# Altium schematic symbol library Schematic Diagrams.SchLib: 322 symbols (part 4 of 8)
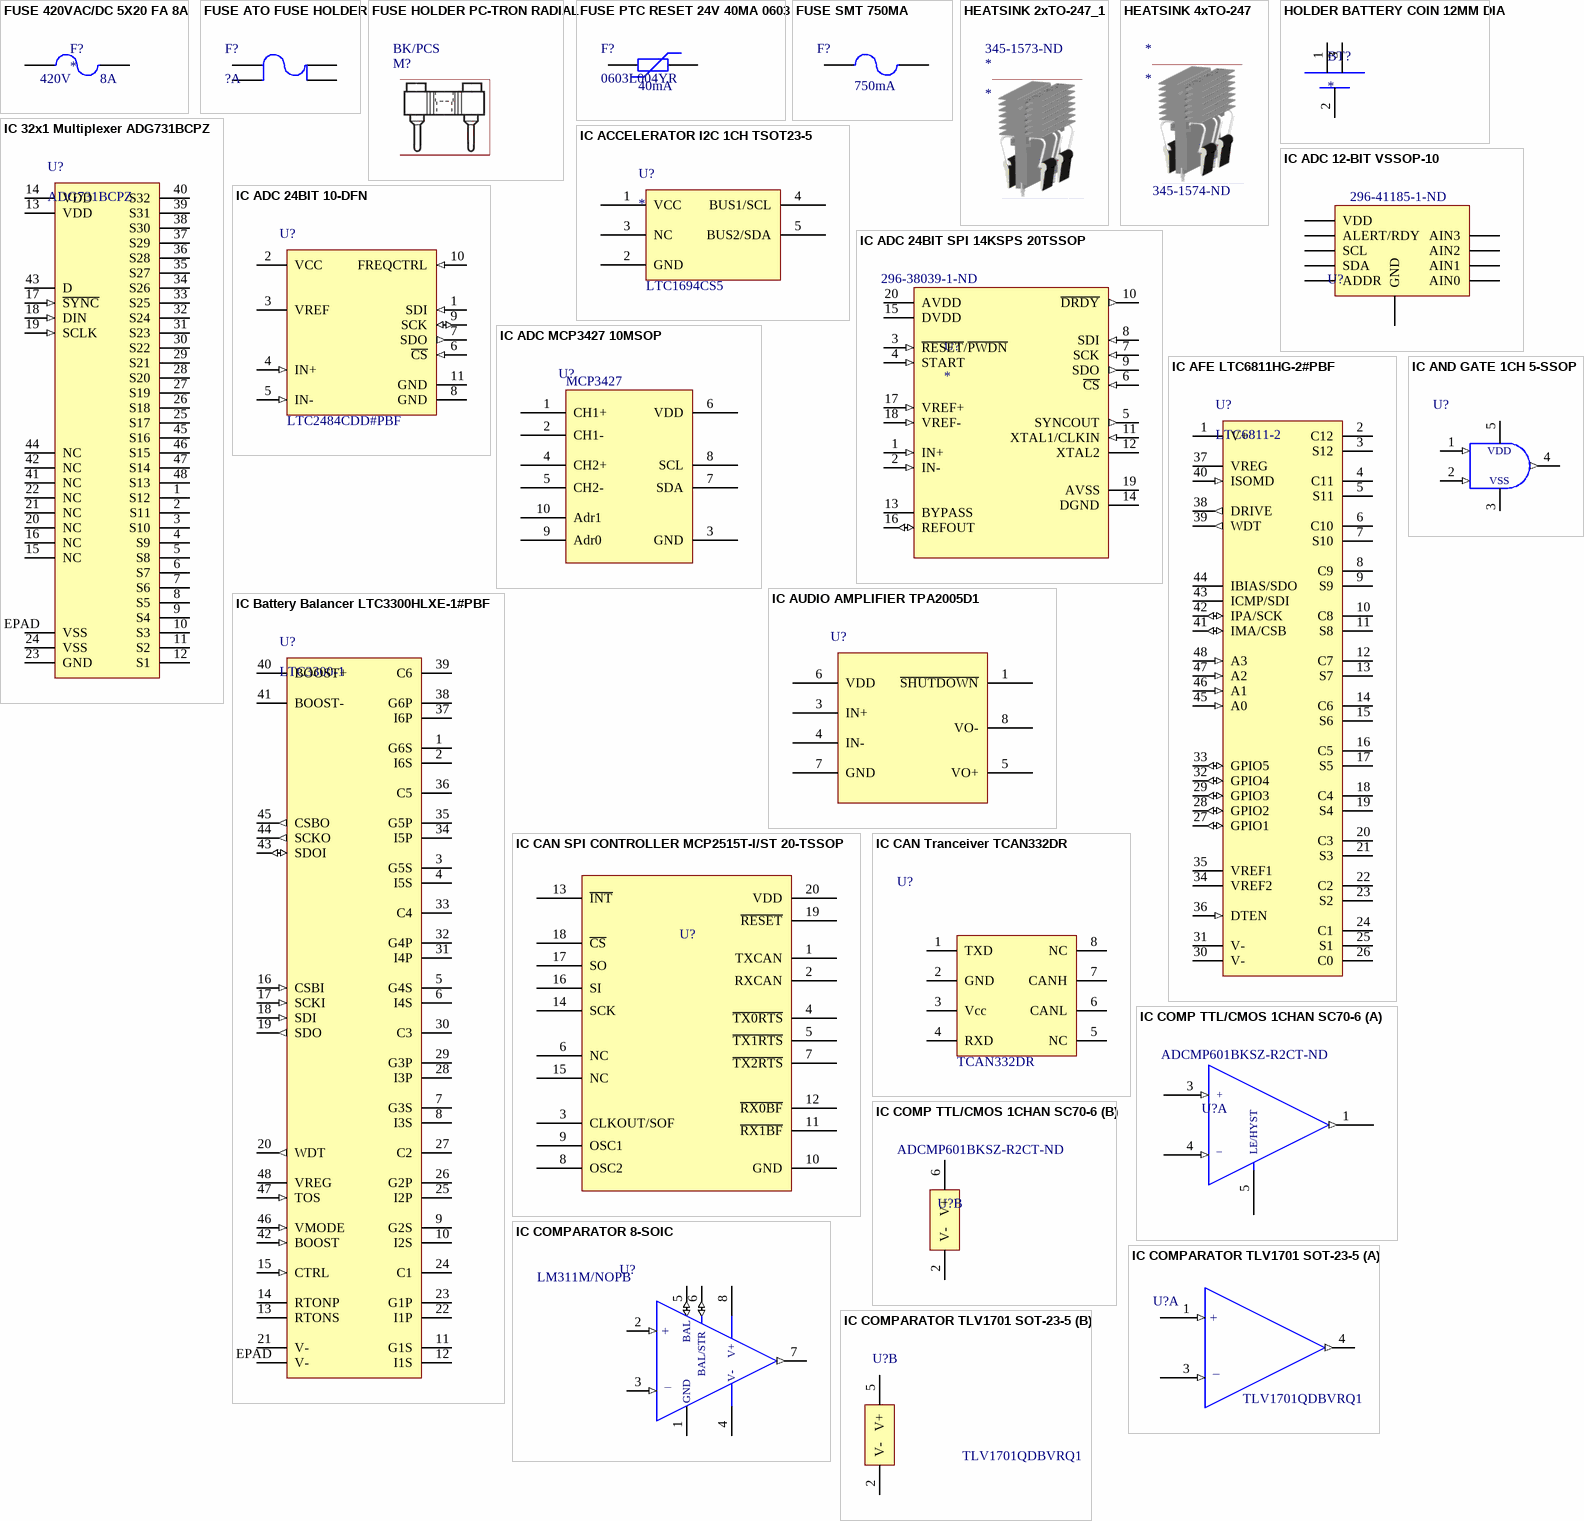
[diagram p13: symbols FUSE 420VAC/DC 5X20 FA 8A to IC COMPARATOR TLV1701 SOT-23-5]

## FUSE PTC RESET 24V 40MA 0603
designator F?, comment 0603L004YR  Hold Current: 40mA
Polymeric PTC Resettable Fuse 24V 40mA Ih Surface Mount 0603 (1608 Metric), Concave; Manufacturer 1: Littelfuse; Description 1: PTC 24V POLYFUSE SMT 0603 .035A; Max Current Rating: 20A; Power Dissipation: 500mW; Trip Current: 120mA; Time to Trip: 1s; Approvals: cULus,TUV; Supplier 1: Digi-Key; Supplier Part Number 1: F6263CT-ND; Manufacturer Part Number 1: 0603L004YR; Stock 1: 21365; Pricing 1: 1=2.61, 5=2.488, 10=2.363, 50=1.9068, 100=1.6166, 250=1.5751, 500=1.3264, 1000=1.1813 (USD); Case/Package: 0603; Case Code (Metric): 1608; Case Code (Imperial): 0603; Min Operating Temperature: -40°C; Max Operating Temperature: 85°C; Packaging: Tape and Reel; Package Quantity: 4000; Max Voltage Rating (DC): 24V; ComponentLink1URL: https://datasheet.ciiva.com/29603/littelfuse-ptc-0603l-29603319.pdf; ComponentLink1Description: https://datasheet.ciiva.com/29603/littelfuse-ptc-0603l-29603319.pdf
footprint RES, 0603 (Chip Resistor, 2-Leads, Body 1.60x0.80mm, IPC Medium Density)
pins: 1, 2

## FUSE SMT 750MA
designator F?  Current Rating: 750mA
Board Mount Fuse 750MA 32VAC 63VDC; Manufacturer 1: Bel Fuse Inc.; Manufacturer Part Number 1: C2Q 750; Fuse Type: Board Mount (Cartridge Style Excluded); Response Time: Fast; Breaking Capacity @ Rated Voltage: 35A AC, 50A DC; Approvals: CE, cULus; Supplier 1: Digi-Key; Supplier Part Number 1: 507-1090-1-ND; Packaging: Cut Tape (CT); Part Status: Active; Package / Case: 0603 (1608 Metric); Mounting Type: Surface Mount; Operating Temperature: -55°C ~ 125°C; Color: -; Size / Dimension: 0.063" L x 0.032" W x 0.019" H (1.60mm x 0.82mm x 0.48mm); ComponentLink1URL: https://belfuse.com/resources/StewartConnector/C2Q.pdf; ComponentLink1Description: https://belfuse.com/resources/StewartConnector/C2Q.pdf
footprint RES, 0603 (Chip Resistor, 2-Leads, Body 1.60x0.80mm, IPC Medium Density)
pins: 1, 2

## HEATSINK 2xTO-247_1
designator *  Supplier Part Number 1: 345-1573-ND
Heat Sink TO-220, TO-247, TO-264 Aluminum Board Level, Vertical; Manufacturer: Wakefield; Manufacturer Part Number: OMNI-UNI-30-50-D; Supplier 1: Digi-Key; Stock 1: 499; Pricing 1: 1=2.8, 10=2.728, 25=2.6544, 50=2.5068, 100=2.3594, 250=2.21192, 500=2.13818, 1000=1.91698, 5000=1.88012 (USD)
footprint HEATSINK 2x TO-247

## HEATSINK 4xTO-247
designator *  Supplier Part Number 1: 345-1574-ND
n Heat Sink TO-220, TO-247, TO-264 Aluminum Board Level, Vertical; Manufacturer: Wakefield; Manufacturer Part Number: OMNI-UNI-30-50-D; Supplier 1: Digi-Key; Stock 1: 465; Pricing 1: 1=4.09, 10=3.98, 25=3.8724, 50=3.6572, 100=3.4421, 250=3.22696, 500=3.11938, 1000=2.79669 (USD)
footprint HEATSINK 4x TO-247

## HOLDER BATTERY COIN 12MM DIA
designator BT?
Coin cell holder smd; Manufacturer: Keystone Electronics; Manufacturer Part Number: 3000; Body Material: Bronze; Number of Batteries: 1; Supplier 1: Digi-Key; Stock 1: 17093; Pricing 1: 1=0.58, 10=0.545, 50=0.4356, 100=0.4175, 250=0.38116, 500=0.363, 1000=0.30495, 2500=0.27225, 5000=0.26318 (USD); Mount: Surface Mount,PCB; Contact Material: Bronze,Nickel; Material: Bronze; Contact Plating: Nickel; Package Quantity: 100; Packaging: Bulk; Termination: SMD/SMT; Number of Cells: 1; Diameter: 12mm; Height: 3.17mm; REACH SVHC: No SVHC; Lead Free: Lead Free; ComponentLink1URL: https://datasheet.ciiva.com/3/3000-3953.pdf; ComponentLink1Description: https://datasheet.ciiva.com/3/3000-3953.pdf; ComponentLink2URL: https://datasheet.ciiva.com/11714/0900766b8002ef78-11714721.pdf; ComponentLink2Description: https://datasheet.ciiva.com/11714/0900766b8002ef78-11714721.pdf; ComponentLink3URL: https://datasheet.ciiva.com/20221/18-3570e-20221596.pdf; ComponentLink3Description: https://datasheet.ciiva.com/20221/18-3570e-20221596.pdf; ComponentLink4URL: https://datasheet.ciiva.com/1391/1718262-1391630.pdf; ComponentLink4Description: https://datasheet.ciiva.com/1391/1718262-1391630.pdf; Supplier Part Number 1: 36-3000-ND
footprint HOLDER COIN CELL 1220 3V (12mm smd coin cell holder)
pins: 1 positive 1 (power), 2 negative (power), 3 positive 2 (power)

## IC 32x1 Multiplexer ADG731BCPZ
designator U?, comment ADG731BCPZ
IC MULTIPLEXER 32X1 48LFCSP; Manufacturer: Analog Devices Inc.; Supplier 1: Digi-Key; Supplier Part Number 1: ADG731BCPZ-ND; Manufacturer Part Number: ADG731BCPZ
pins: 1 S12, 2 S11, 3 S10, 4 S9, 5 S8, 6 S7, 7 S6, 8 S5, 9 S4, 10 S3, 11 S2, 12 S1, 13 VDD (power), 14 VDD (power), 15 NC, 16 NC, 17 ~{SYNC} (in), 18 DIN (in), 19 SCLK (in), 20 NC, 21 NC, 22 NC, 23 GND (power), 24 VSS (power), 25 S17, 26 S18, 27 S19, 28 S20, 29 S21, 30 S22, 31 S23, 32 S24, 33 S25, 34 S26, 35 S27, 36 S28, 37 S29, 38 S30, 39 S31, 40 S32, 41 NC, 42 NC, 43 D, 44 NC, 45 S16, 46 S15, 47 S14, 48 S13, EPAD VSS (power)

## IC ACCELERATOR I2C 1CH TSOT23-5
designator U?  Supplier Part Number: LTC1694CS5
Accelerator 1 Channel 400kHz TSOT-23-5; Manufacturer: Linear Technology/Analog Devices; Manufacturer Part Number: LTC1694CS5#TRMPBF; Input: 2-Wire Bus; Number of Channels: 1; Voltage - Supply: 2.7 V ~ 6 V; Current - Supply: 60µA; Supplier 1: Digi-Key; RoHS: RoHS Compliant; Category: Integrated Circuits (ICs); Pricing 1: 1=4.79, 25=4.278, 100=2.5493, 250=2.33692 (CAD); Packaging: Cut Tape (CT); Part Status: Active; Type: Accelerator; Applications: I²C; Output: 2-Wire Bus; Data Rate (Max): 400kHz; Delay Time: -; Signal Conditioning: -; Operating Temperature: 0°C ~ 70°C; Package / Case: SOT-23-5 Thin, TSOT-23-5; Supplier Device Package: TSOT-23-5; Base Part Number: LTC1694; ComponentLink1URL: http://www.linear.com/docs/3505; ComponentLink1Description: http://www.linear.com/docs/3505; Supplier Part Number 1: LTC1694CS5#TRMPBFCT-ND; Stock 1: 794
footprint IC OP AMP GP RR 10MHZ SOT-23-5 (SOT23, 5-Leads, Body 2.90x2.80mm, Pitch 0.95mm, IPC Medium Density)
pins: 1 VCC, 2 GND, 3 NC, 4 BUS1/SCL, 5 BUS2/SDA

## IC ADC 12-BIT VSSOP-10
designator U?, comment Supplier Part Number 1: 296-41185-1-ND  (hidden comment: Quad ADC)
12 Bit Analog to Digital Converter 4 Input 1 Sigma-Delta 10-VSSOP; Manufacturer: Texas Instruments; Manufacturer Part Number: ADS1015IDGSR; Number of Bits: 12; Sampling Rate (Per Second): 3.3k; Number of Inputs: 2, 4; Input Type: Differential, Single Ended; Data Interface: I²C; Configuration: MUX-PGA-ADC; Number of A/D Converters: 1; Reference Type: Internal; Voltage - Supply, Analog: 2 V ~ 5.5 V; Supplier 1: Digi-Key; RoHS: RoHS Compliant; Category: Integrated Circuits (ICs); Stock 1: 4084; Pricing 1: 1=4.25, 10=3.807, 100=3.1194, 500=2.65552, 1000=2.23959 (CAD); Packaging: Cut Tape (CT); Part Status: Active; Ratio - S/H:ADC: -; Architecture: Sigma-Delta; Voltage - Supply, Digital: 2 V ~ 5.5 V; Features: PGA, Selectable Address; Operating Temperature: -40°C ~ 125°C; Package / Case: 10-TFSOP, 10-MSOP (0.118", 3.00mm Width); Supplier Device Package: 10-VSSOP; ComponentLink1URL: http://www.ti.com/lit/ds/symlink/ads1013.pdf; ComponentLink1Description: http://www.ti.com/lit/ds/symlink/ads1013.pdf
footprint IC ADC VSSOP10
pins: 1 ADDR, 2 ALERT/RDY, 3 GND, 4 AIN0, 5 AIN1, 6 AIN2, 7 AIN3, 8 VDD, 9 SDA, 10 SCL

## IC ADC 24BIT 10-DFN
designator U?  Manufacturer Part Number 1: LTC2484CDD#PBF
24 Bit Analog to Digital Converter 1 Input 1 Sigma-Delta 10-DFN (3x3); Manufacturer 1: Linear Technology; Number of Bits: 24; Sampling Rate (Per Second): 7.5; Number of Inputs: 1; Input Type: Differential; Data Interface: SPI; Configuration: MUX-ADC; Reference Type: External; Voltage - Supply, Analog: 2.7 V ~ 5.5 V; Supplier 1: Digi-Key; Supplier Part Number 1: LTC2484CDD#PBF-ND; Packaging: Tube; Part Status: Active; Ratio - S/H:ADC: -; Number of A/D Converters: 1; Architecture: Sigma-Delta; Voltage - Supply, Digital: 2.7 V ~ 5.5 V; Operating Temperature: 0°C ~ 70°C; Package / Case: 10-WFDFN Exposed Pad; Supplier Device Package: 10-DFN (3x3); ComponentLink1URL: http://www.linear.com/docs/7978; ComponentLink1Description: http://www.linear.com/docs/7978
footprint IC ADC LTC2484 10-DFN
pins: 1 SDI (in), 2 VCC (power), 3 VREF (power), 4 IN+ (in), 5 IN- (in), 6 ~{CS} (in), 7 SDO (out), 8 GND (power), 9 SCK (io), 10 FREQCTRL (in), 11 GND

## IC ADC 24BIT SPI 14KSPS 20TSSOP
designator U?  Supplier Part Number 1: 296-38039-1-ND
24 Bit Analog to Digital Converter 1 Input 1 Sigma-Delta 20-TSSOP; Manufacturer: Texas Instruments; Manufacturer Part Number: ADS1259QPWRQ1; Categories: Integrated Circuits (ICs); Number of Bits: 24; Sampling Rate (Per Second): 14k; Number of Inputs: 1; Input Type: Differential, Single Ended; Data Interface: SPI; Configuration: ADC; Reference Type: External; Voltage - Supply, Analog: 5V; Voltage - Supply, Digital: 2.7V ~ 5.25V; Supplier 1: Digi-Key; ComponentLink1Description: Datasheet; ComponentLink1URL: http://www.ti.com/lit/ds/symlink/ads1259.pdf; Packaging: Cut Tape (CT); Part Status: Active; Number of A/D Converters: 1; Architecture: Sigma-Delta; Features: PGA; Operating Temperature: -40°C ~ 105°C; Package / Case: 20-TSSOP (0.173", 4.40mm Width); Supplier Device Package: 20-TSSOP; Mounting Type: Surface Mount; Lead Free Status / RoHS Status: Lead free / ROHS3 Compliant
footprint TSSOP65P640X120-20N (TSSOP, 20-Leads, Body 6.50x4.40mm, Pitch 0.65mm, IPC Medium Density)
pins: 1 IN+ (in), 2 IN- (in), 3 ~{RE}~{SET}/~{PW}~{DN} (in), 4 START (in), 5 SYNCOUT (out), 6 ~{C}~{S} (in), 7 SCK (in), 8 SDI (in), 9 SDO (out), 10 ~{DRD}~{Y} (out), 11 XTAL1/CLKIN (in), 12 XTAL2, 13 BYPASS, 14 DGND, 15 DVDD, 16 REFOUT  (io), 17 VREF+ (in), 18 VREF- (in), 19 AVSS, 20 AVDD

## IC ADC MCP3427 10MSOP
designator U?  Base Part Number: MCP3427
16 Bit Analog to Digital Converter 2 Input 1 Sigma-Delta 10-MSOP; Manufacturer: Microchip Technology; Manufacturer Part Number: MCP3427-E/UN; Number of Bits: 16; Sampling Rate (Per Second): 15; Number of Inputs: 2; Input Type: Differential; Data Interface: I²C; Configuration: MUX-PGA-ADC; Reference Type: Internal; Voltage - Supply, Analog: 2.7 V ~ 5.5 V; Supplier 1: Digi-Key; RoHS: RoHS Compliant; Category: Integrated Circuits (ICs); Stock 1: 3001; Pricing 1: 1=4.32, 25=3.6064, 100=3.2704 (CAD); Packaging: Tube; Part Status: Active; Ratio - S/H:ADC: -; Architecture: Sigma-Delta; Voltage - Supply, Digital: 2.7 V ~ 5.5 V; Features: PGA, Selectable Address; Operating Temperature: -40°C ~ 125°C; Package / Case: 10-TFSOP, 10-MSOP (0.118", 3.00mm Width); Supplier Device Package: 10-MSOP; ComponentLink1URL: http://www.microchip.com/mymicrochip/filehandler.aspx?ddocname=en546216; ComponentLink1Description: http://www.microchip.com/mymicrochip/filehandler.aspx?ddocname=en546216; Supplier Part Number 1: MCP3427-E/UN-ND
footprint IC ADC MCP3427
pins: 1 CH1+, 2 CH1-, 3 GND, 4 CH2+, 5 CH2-, 6 VDD, 7 SDA, 8 SCL, 9 Adr0, 10 Adr1

## IC AFE LTC6811HG-2#PBF
designator U?, comment LTC6811-2
IC MONITOR BATT STACK 48SSOP; Manufacturer: Linear Technology; Manufacturer Part Number: LTC6811HG-2#PBF; Digikey Part Number: LTC6811HG-2#PBF-ND; Supplier 1: Digi-Key; Supplier Part Number 1: LTC6811HG-2#PBF-ND
pins: 1 V+ (power), 2 C12, 3 S12, 4 C11, 5 S11, 6 C10, 7 S10, 8 C9, 9 S9, 10 C8, 11 S8, 12 C7, 13 S7, 14 C6, 15 S6, 16 C5, 17 S5, 18 C4, 19 S4, 20 C3, 21 S3, 22 C2, 23 S2, 24 C1, 25 S1, 26 C0, 27 GPIO1 (io), 28 GPIO2 (io), 29 GPIO3 (io), 30 V- (power), 31 V- (power), 32 GPIO4 (io), 33 GPIO5 (io), 34 VREF2 (power), 35 VREF1 (power), 36 DTEN (in), 37 VREG (power), 38 DRIVE (out), 39 WDT (out), 40 ISOMD (in), 41 IMA/CSB (io), 42 IPA/SCK (io), 43 ICMP/SDI, 44 IBIAS/SDO, 45 A0 (in), 46 A1 (in), 47 A2 (in), 48 A3 (in)

## IC AND GATE 1CH 5-SSOP
designator U?
AND Gate IC 1 Channel 5-SSOP; Manufacturer 1: Rohm Semiconductor; Manufacturer Part Number 1: BU4S81G2-TR; Number of Circuits: 1; Number of Inputs: 2; Voltage - Supply: 3 V ~ 16 V; Current - Quiescent (Max): 1µA; Current - Output High, Low: 3.4mA, 3.4mA; Logic Level - Low: 1.5 V ~ 4 V; Logic Level - High: 3.5 V ~ 11 V; Max Propagation Delay @ V, Max CL: 30ns @ 15V, 50pF; Supplier 1: Digi-Key; Supplier Part Number 1: BU4S81G2CT-ND; Packaging: Cut Tape (CT); Part Status: Active; Operating Temperature: -40°C ~ 85°C; Mounting Type: Surface Mount; Supplier Device Package: 5-SSOP; Package / Case: SC-74A, SOT-753; ComponentLink1URL: http://rohmfs.rohm.com/en/products/databook/datasheet/ic/logic_switch/standard_logic/bu4s81g2-e.pdf; ComponentLink1Description: http://rohmfs.rohm.com/en/products/databook/datasheet/ic/logic_switch/standard_logic/bu4s81g2-e.pdf; Logic Type: AND Gate
footprint IC, 2-Input AND Gate (IC GATE AND 1CH 2-INP 5-SSOP)
pins: 1 A (in), 2 B (in), 3 GND (power), 4 Y (out), 5 VCC (power)
text: VDD; VSS

## IC AUDIO AMPLIFIER TPA2005D1
designator U?
Amplifier IC 1-Channel (Mono) Class D 8-MSOP-PowerPad; Manufacturer: Texas Instruments; Manufacturer Part Number: TPA2005D1DGNR; Max Output Power x Channels @ Load: 1.45W x 1 @ 8 Ohm; Voltage - Supply: 2.5 V ~ 5.5 V; Supplier 1: Digi-Key; RoHS: RoHS Compliant; Category: Integrated Circuits (ICs); Stock 1: 18369; Pricing 1: 1=1.8, 10=1.604, 100=1.2507, 500=1.03318, 1000=0.81568 (CAD); Packaging: Digi-Reel®; Part Status: Active; Type: Class D; Output Type: 1-Channel (Mono); Features: Differential Inputs, Short-Circuit and Thermal Protection, Shutdown; Mounting Type: Surface Mount; Operating Temperature: -40°C ~ 85°C (TA); Supplier Device Package: 8-MSOP-PowerPad; Package / Case: 8-TSSOP, 8-MSOP (0.118", 3.00mm Width) Exposed Pad; Base Part Number: TPA2005D1; ComponentLink1URL: http://www.ti.com/lit/ds/symlink/tpa2005d1.pdf; ComponentLink1Description: http://www.ti.com/lit/ds/symlink/tpa2005d1.pdf; Supplier Part Number 1: 296-26876-6-ND
footprint IC CLASS D AUDIO AMPLIFIER TPA2005D1 8-MSOP
pins: 1 ~{SHUTDOWN}, 3 IN+, 4 IN-, 5 VO+, 6 VDD, 7 GND, 8 VO-

## IC Battery Balancer LTC3300HLXE-1#PBF
designator U?, comment LTC3300-1
IC BATTERY BALANCER 48LQFP; Manufacturer: Linear Technology; Manufacturer Part Number: LTC3300HLXE-1#PBF; Supplier 1: Digi-Key; Supplier Part Number 1: LTC3300HLXE-1#PBF-ND
pins: 1 G6S, 2 I6S, 3 G5S, 4 I5S, 5 G4S, 6 I4S, 7 G3S, 8 I3S, 9 G2S, 10 I2S, 11 G1S, 12 I1S, 13 RTONS, 14 RTONP, 15 CTRL (in), 16 CSBI (in), 17 SCKI (in), 18 SDI (in), 19 SDO (out), 20 WDT (out), 21 V- (power), 22 I1P, 23 G1P, 24 C1, 25 I2P, 26 G2P, 27 C2, 28 I3P, 29 G3P, 30 C3, 31 I4P, 32 G4P, 33 C4, 34 I5P, 35 G5P, 36 C5, 37 I6P, 38 G6P, 39 C6, 40 BOOST+, 41 BOOST-, 42 BOOST (in), 43 SDOI (io), 44 SCKO (out), 45 CSBO (out), 46 VMODE (in), 47 TOS (in), 48 VREG (power), EPAD V- (power)

## IC CAN SPI CONTROLLER MCP2515T-I/ST 20-TSSOP
designator U?, comment MCP2515  (value not drawn)
CAN Controller CAN 2.0 SPI Interface 20-TSSOP; Manufacturer: Microchip Technology; Manufacturer Part Number: MCP2515T-I/ST; Standards: CAN 2.0; Voltage - Supply: 2.7 V ~ 5.5 V; Current - Supply: 10mA; Supplier 1: Digi-Key; RoHS: RoHS Compliant; Category: Integrated Circuits (ICs); Stock 1: 27278; Pricing 1: 1=3.04, 25=2.5372, 100=2.3076 (CAD); Packaging: Cut Tape (CT); Part Status: Active; Protocol: CAN; Function: Controller; Interface: SPI; Operating Temperature: -40°C ~ 85°C; Package / Case: 20-TSSOP (0.173", 4.40mm Width); Supplier Device Package: 20-TSSOP; Base Part Number: MCP2515; ComponentLink1URL: http://www.microchip.com/mymicrochip/filehandler.aspx?ddocname=en011733; ComponentLink1Description: http://www.microchip.com/mymicrochip/filehandler.aspx?ddocname=en011733; Supplier Part Number 1: MCP2515T-I/STCT-ND
footprint TSSOP65P640X120-20N (TSSOP, 20-Leads, Body 6.50x4.40mm, Pitch 0.65mm, IPC Medium Density)
pins: 1 TXCAN, 2 RXCAN, 3 CLKOUT/SOF, 4 ~{TX0RTS}, 5 ~{TX1RTS}, 6 NC, 7 ~{TX2RTS}, 8 OSC2, 9 OSC1, 10 GND, 11 ~{RX1BF}, 12 ~{RX0BF}, 13 ~{INT}, 14 SCK, 15 NC, 16 SI, 17 SO, 18 ~{CS}, 19 ~{RE}~{SET}, 20 VDD

## IC CAN Tranceiver TCAN332DR
designator U?  Manufacturer Part Number: TCAN332DR
1/1 Transceiver CAN 8-SOIC; Digikey Part Number: 296-43711-1-ND; Supplier 1: Digi-Key; Supplier Part Number 1: 296-43711-1-ND
footprint TSOP65P280X145-8N (TSOP, 8-Leads, Body 2.90x1.60mm, Pitch 0.65mm, IPC Medium Density)
pins: 1 TXD, 2 GND, 3 Vcc, 4 RXD, 5 NC, 6 CANL, 7 CANH, 8 NC

## IC COMP TTL/CMOS 1CHAN SC70-6
designator U?  Supplier Part Number 1: ADCMP601BKSZ-R2CT-ND  (hidden comment: *)
Comparator with Latch CMOS, TTL SC-70-6; ComponentLink1Description: https://www.analog.com/media/en/technical-documentation/data-sheets/ADCMP600_601_602.pdf; ComponentLink1URL: https://www.analog.com/media/en/technical-documentation/data-sheets/ADCMP600_601_602.pdf; Supplier 1: Digi-Key
footprint 6-Lead Plastic SC70
part A pins: 1 Q (out), 3 + (in), 4 _ (in), 5 LE/HYST
part B pins: 2 V- (power), 6 V+ (power)

## IC COMPARATOR 8-SOIC
designator U?  Manufacturer Part Number 1: LM311M/NOPB
Comparator General Purpose DTL, MOS, Open-Collector, Open-Emitter, RTL, TTL 8-SOIC; Manufacturer 1: Texas Instruments; Voltage - Supply, Single/Dual (±): 5 V ~ 36 V, ±2.5 V ~ 18 V; Voltage - Input Offset (Max): 7.5mV @ ±15V; Current - Input Bias (Max): 0.25µA @ ±15V; Current - Quiescent (Max): 7.5mA; Supplier 1: Digi-Key; Supplier Part Number 1: LM311MNS/NOPB-ND; Packaging: Tube; Part Status: Active; Type: General Purpose; Output Type: DTL, MOS, Open-Collector, Open-Emitter, RTL, TTL; Current - Output (Typ): -; CMRR, PSRR (Typ): -; Propagation Delay (Max): -; Hysteresis: -; Operating Temperature: 0°C ~ 70°C; Package / Case: 8-SOIC (0.154", 3.90mm Width); Mounting Type: Surface Mount; Supplier Device Package: 8-SOIC; ComponentLink1URL: http://www.ti.com/lit/ds/symlink/lm311-n.pdf; ComponentLink1Description: http://www.ti.com/lit/ds/symlink/lm311-n.pdf
footprint SOIC8
pins: 1 GND (power), 2 +IN (in), 3 -IN (in), 4 V- (power), 5 BAL (io), 6 BAL/STR (io) "Balance/Strobe", 7 OUTPUT (out), 8 V+ (power)
text: +; _

## IC COMPARATOR TLV1701 SOT-23-5
designator U?  Manufacturer Part Number: TLV1701QDBVRQ1
Comparator General Purpose Open Collector SOT-23-5; Manufacturer: Texas Instruments; Number of Channels: 1; Supplier 1: Digi-Key; Supplier Part Number 1: 296-47458-1-ND; Stock 1: 8944; Min Operating Temperature: -40°C; Max Operating Temperature: 125°C; ComponentLink1Description: Datasheet; ComponentLink1URL: http://www.ti.com/lit/ds/symlink/tlv1701-q1.pdf
footprint SOT95P280X145-5N (SOT23, 5-Leads, Body 2.95x2.80mm, Pitch 0.95mm, IPC Medium Density)
part A pins: 1 +IN (in), 3 -IN (in), 4 OUT (out)
part B pins: 2 V- (power), 5 V+ (power)
part A text: +; _

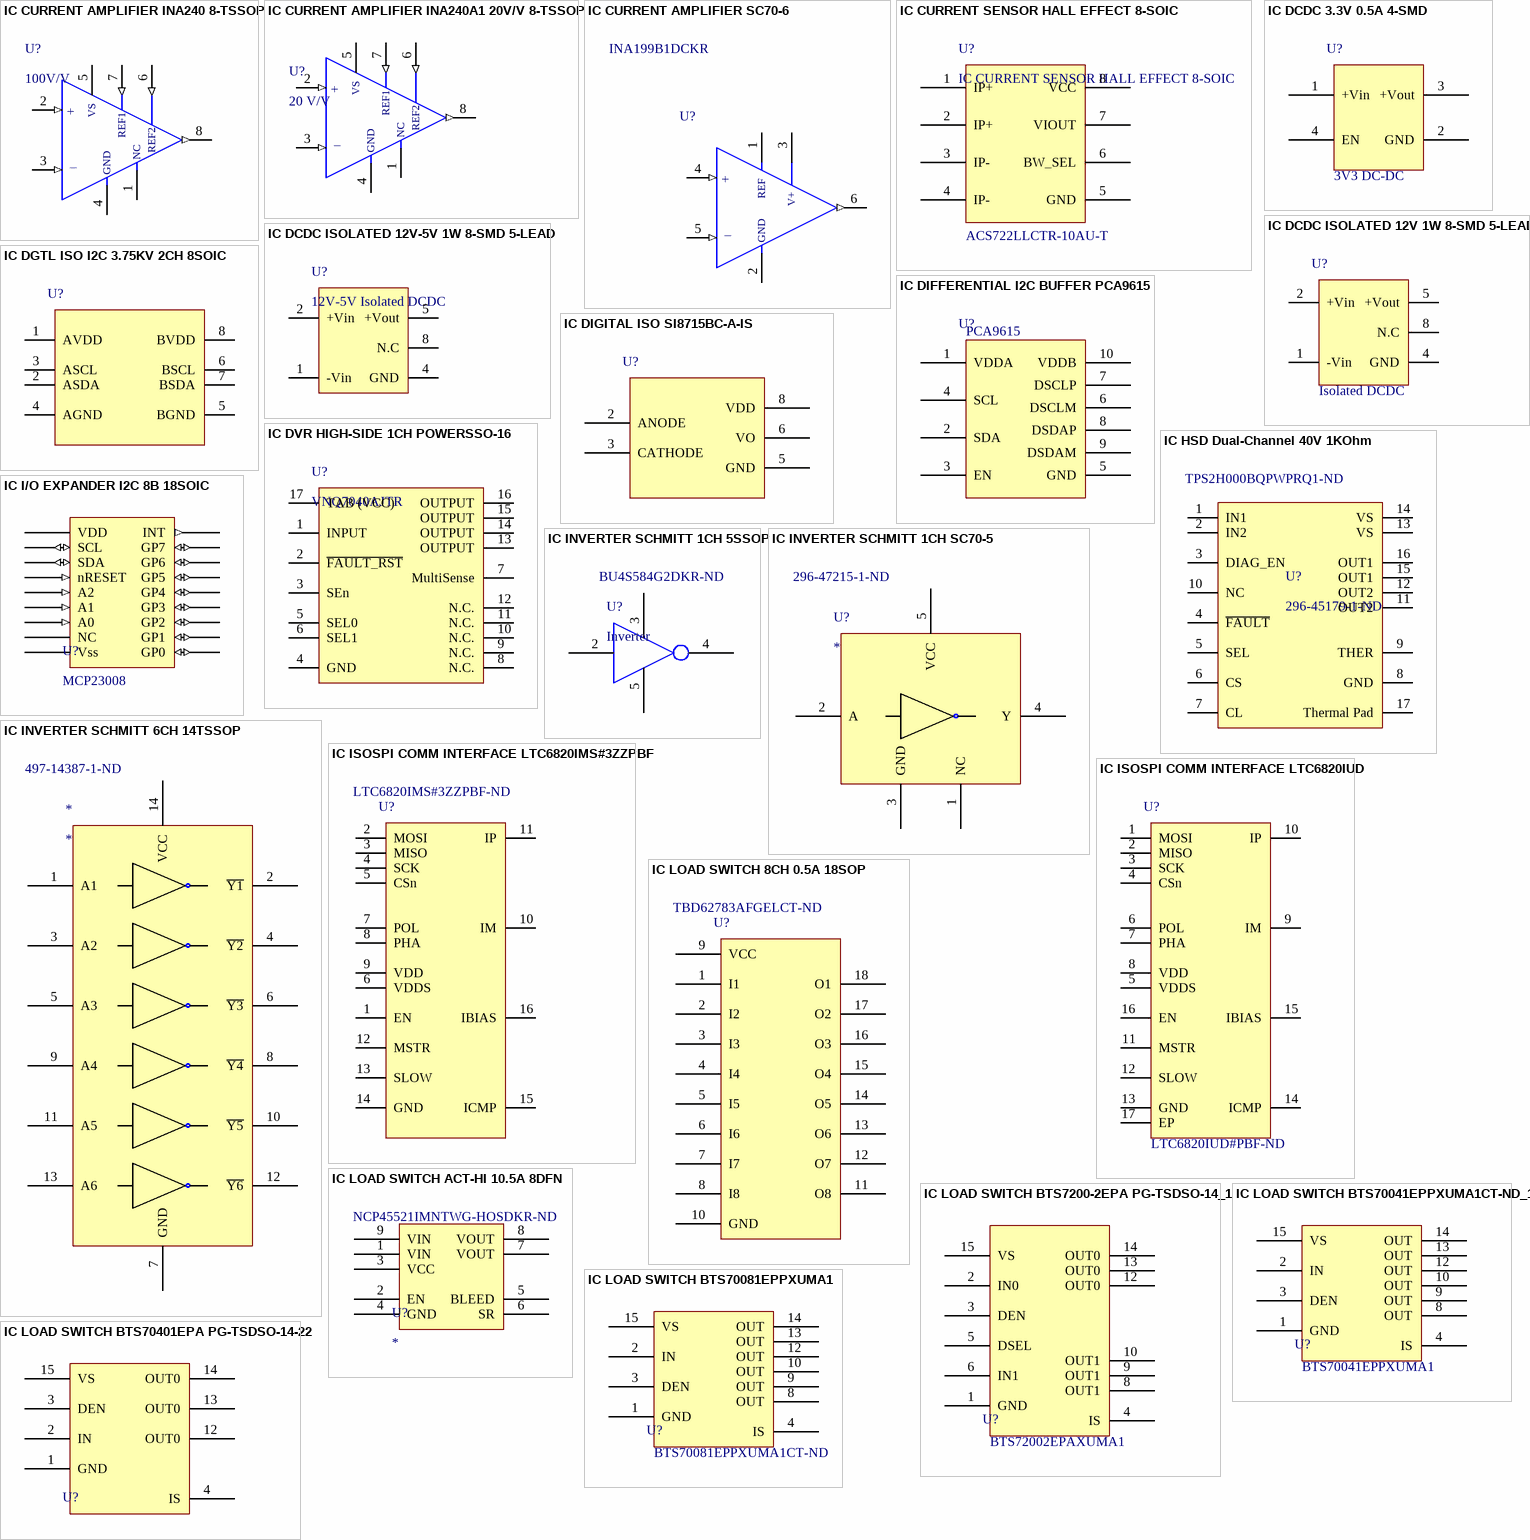
[diagram p4: symbols IC CURRENT AMPLIFIER INA240 8-TSSOP to IC LOAD SWITCH BTS70401EPA PG-TSDSO-14-22]

## IC CURRENT AMPLIFIER INA240 8-TSSOP
designator U?, comment 100V/V
Current Sense Amplifier 1 Circuit 8-TSSOP; Manufacturer 1: Texas Instruments; Manufacturer Part Number 1: INA240A3PWR; Description 1: IC AMP CURRENT SENSE 8-TSSOP; Slew Rate: 2 V/µs; Current - Supply: 1.8mA; Voltage - Supply, Single/Dual (±): 2.7 V ~ 5.5 V; Supplier 1: Digi-Key; Supplier Part Number 1: 296-45090-1-ND; RoHS: RoHS Compliant; Category: Integrated Circuits (ICs); Stock 1: 1286; Pricing 1: 1=3.79, 10=3.397, 100=2.7311, 500=2.24388, 1000=1.85921 (CAD); Packaging: Cut Tape (CT); Part Status: Active; Amplifier Type: Current Sense; Output Type: -; Operating Temperature: -40°C ~ 125°C; Mounting Type: Surface Mount; Package / Case: 8-TSSOP (0.173", 4.40mm Width); Supplier Device Package: 8-TSSOP; ComponentLink1URL: http://www.ti.com/lit/ds/symlink/ina240.pdf; ComponentLink1Description: http://www.ti.com/lit/ds/symlink/ina240.pdf
footprint IC CURRENT AMPLIFIER INA240 TSSOP-8
pins: 1 NC (power) "Connect to GND", 2 +IN (in), 3 -IN (in), 4 GND (power), 5 VS (power), 6 REF2 (in) "Reference", 7 REF1 (in) "Reference", 8 OUTPUT (out)
text: +; _

## IC CURRENT AMPLIFIER INA240A1 20V/V 8-TSSOP
designator U?, comment 20 V/V
Current Sense Amplifier 1 Circuit 8-TSSOP; Manufacturer 1: Texas Instruments; ComponentLink1URL: http://www.ti.com/lit/ds/symlink/ina240.pdf; ComponentLink1Description: http://www.ti.com/lit/ds/symlink/ina240.pdf; Supplier 1: Digi-Key; Supplier Part Number 1: 296-45088-1-ND; Stock 1: 4306; Pricing 1: 1=2.65, 10=2.377, 100=1.9109, 500=1.56998, 1000=1.30084 (USD); Case/Package: TSSOP; Min Operating Temperature: -40°C; Max Operating Temperature: 125°C; Lead Free: Lead Free
footprint IC CURRENT AMPLIFIER INA240 TSSOP-8
pins: 1 NC (power) "Connect to GND", 2 +IN (in), 3 -IN (in), 4 GND (power), 5 VS (power), 6 REF2 (in) "Reference", 7 REF1 (in) "Reference", 8 OUTPUT (out)
text: +; _

## IC CURRENT AMPLIFIER SC70-6
designator U?  Manufacturer Part Number 1: INA199B1DCKR  (hidden comment: IC CURRENT AMPLIFIER SC70-6)
Current Sense Amplifier 1 Circuit SC-70-6; Manufacturer 1: Texas Instruments; Description 1: IC OPAMP CURR SENSE 80KHZ SC70-6; Number of Circuits: 1; Slew Rate: 0.4 V/µs; Current - Supply: 65µA; Voltage - Supply, Single/Dual (±): 2.7 V ~ 26 V; Supplier 1: Digi-Key; Supplier Part Number 1: 296-40118-1-ND; RoHS: RoHS Compliant; Category: Integrated Circuits (ICs); Stock 1: 6627; Pricing 1: 1=1.36, 10=1.197, 100=0.9177, 500=0.7255, 1000=0.58041 (CAD); Packaging: Cut Tape (CT); Part Status: Active; Amplifier Type: Current Sense; Output Type: -; -3db Bandwidth: -; Current - Output / Channel: -; Operating Temperature: -40°C ~ 125°C; Mounting Type: Surface Mount; Package / Case: 6-TSSOP, SC-88, SOT-363; Supplier Device Package: SC-70-6; ComponentLink1URL: http://www.ti.com/lit/ds/symlink/ina199.pdf; ComponentLink1Description: http://www.ti.com/lit/ds/symlink/ina199.pdf
footprint IC OP AMP CURR SENSE 80KHZ SC70-6
pins: 1 REF "Reference", 2 GND (power), 3 V+ (power), 4 +IN (in), 5 -IN (in), 6 OUTPUT (out)
text: +; _

## IC CURRENT SENSOR HALL EFFECT 8-SOIC
designator U?  Manufacturer Part Number: ACS722LLCTR-10AU-T
Current Sensor 10A 1 Channel Hall Effect, Open Loop Unidirectional 8-SOIC (0.154", 3.90mm Width); Manufacturer: Allegro MicroSystems, LLC; For Measuring: DC; Output: Ratiometric, Voltage; Sensitivity: 264mV/A; Frequency: DC ~ 80kHz; Linearity: ±1%; Accuracy: ±3%; Voltage - Supply: 3 V ~ 3.6 V; Response Time: 5µs; Current - Supply (Max): 12mA; Supplier 1: Digi-Key; RoHS: RoHS Compliant; Category: Sensors, Transducers; Stock 1: 5711; Pricing 1: 1=8.22, 5=7.25, 10=6.404, 25=5.1948, 50=4.5908, 100=4.4701, 500=3.74526, 1000=3.50362 (CAD); Packaging: Cut Tape (CT); Part Status: Active; Sensor Type: Hall Effect, Open Loop; Current - Sensing: 10A; Operating Temperature: -40°C ~ 150°C; Polarization: Unidirectional; Mounting Type: Surface Mount; Package / Case: 8-SOIC (0.154", 3.90mm Width); ComponentLink1URL: http://www.allegromicro.com/~/media/Files/Datasheets/ACS722-Datasheet.ashx; ComponentLink1Description: http://www.allegromicro.com/~/media/Files/Datasheets/ACS722-Datasheet.ashx; Supplier Part Number 1: 620-1636-1-ND
footprint SOIC8
pins: 1 IP+, 2 IP+, 3 IP-, 4 IP-, 5 GND, 6 BW_SEL, 7 VIOUT, 8 VCC

## IC DCDC 3.3V 0.5A 4-SMD
designator U?
Non-isolated PoL DC-DC Module 3.3V Output 0.5A 5-36V Input; Manufacturer: Recom Power; Manufacturer Part Number: ROF-78E3.3-0.5SMD-R; Number of Outputs: 1; Voltage - Input (Min): 5V; Voltage - Input (Max): 36V; Current - Output (Max): 500mA; Efficiency: 84%; Supplier 1: Digi-Key; RoHS: RoHS Compliant; Category: Power Supplies - Board Mount; Stock 1: 2290; Packaging: Cut Tape (CT); Part Status: Active; Type: Non-Isolated PoL Module; Voltage - Output 1: 3.3V; Voltage - Output 2: -; Voltage - Output 3: -; Voltage - Isolation: -; Applications: ITE (Commercial); Features: SCP; Operating Temperature: -40°C ~ 75°C; Mounting Type: Surface Mount; Package / Case: 4-SMD Module; Size / Dimension: 0.53" L x 0.49" W x 0.18" H (13.5mm x 12.5mm x 4.5mm); ComponentLink1URL: https://www.recom-power.com/pdf/Innoline/ROF-78Exx-0.5.pdf; ComponentLink1Description: https://www.recom-power.com/pdf/Innoline/ROF-78Exx-0.5.pdf; Supplier Part Number 1: 945-1689-1-ND; Pricing 1: 1=4.97, 5=4.906, 10=4.836, 25=4.6944, 50=4.5516, 100=4.4094, 250=4.26728 (CAD)
footprint IC DCDC 3.3V 0.5A 4-SMD
pins: 1 +Vin, 2 GND, 3 +Vout, 4 EN
text: 3V3 DC-DC

## IC DCDC ISOLATED 12V 1W 8-SMD 5-LEAD
designator U?  Type: Isolated DCDC
Isolated Module DC DC Converter 1 Output 12V 84mA 10.8V - 13.2V Input; Manufacturer 1: XP Power; Manufacturer Part Number 1: ISE1212A; Number of Outputs: 1; Voltage - Isolation: 1.5kV (1500V); Efficiency: 81%; Power: 1W; Supplier 1: Digi-Key; Supplier Part Number 1: 1470-2950-1-ND; Packaging: Cut Tape (CT); Part Status: Active; Voltage - Input (Min): 10.8V; Voltage - Input (Max): 13.2V; Voltage - Output 1: 12V; Voltage - Output 2: -; Voltage - Output 3: -; Current - Output (Max): 84mA; Operating Temperature: -40°C ~ 105°C; Mounting Type: Surface Mount; Package / Case: 8-SMD Module, 5 Leads; Size / Dimension: 0.50" L x 0.44" W x 0.29" H (12.7mm x 11.2mm x 7.3mm); ComponentLink1URL: http://www.xppower.com/Portals/0/pdfs/SF_ISE.pdf; ComponentLink1Description: http://www.xppower.com/Portals/0/pdfs/SF_ISE.pdf
footprint IC, Isolated DCDC
pins: 1 -Vin, 2 +Vin, 4 GND, 5 +Vout, 8 N.C

## IC DCDC ISOLATED 12V-5V 1W 8-SMD 5-LEAD
designator U?, comment 12V-5V Isolated DCDC
Isolated Module DC DC Converter 1 Output 5V 200mA 10.8V - 13.2V Input; Manufacturer 1: XP Power; Manufacturer Part Number 1: ISE1205A; Description 1: DC/DC CONV 5V 1W; Efficiency: 80%; Supplier 1: Digi-Key; Supplier Part Number 1: 1470-2948-1-ND; RoHS: RoHS Compliant; Category: Power Supplies - Board Mount; Stock 1: 774; Pricing 1: 1=6.52, 5=6.322, 10=6.126, 25=5.8652, 100=5.4739 (CAD); Packaging: Cut Tape (CT); Part Status: Active; Type: Isolated Module; Voltage - Input (Min): 10.8V; Voltage - Input (Max): 13.2V; Voltage - Output 1: 5V; Voltage - Output 2: -; Voltage - Output 3: -; Current - Output (Max): 200mA; Applications: ITE (Commercial); Features: SCP; Operating Temperature: -40°C ~ 105°C; Mounting Type: Surface Mount; Package / Case: 8-SMD Module, 5 Leads; Size / Dimension: 0.50" L x 0.44" W x 0.29" H (12.7mm x 11.2mm x 7.3mm); ComponentLink1URL: http://www.xppower.com/Portals/0/pdfs/SF_ISE.pdf; ComponentLink1Description: http://www.xppower.com/Portals/0/pdfs/SF_ISE.pdf
footprint IC, Isolated DCDC
pins: 1 -Vin, 2 +Vin, 4 GND, 5 +Vout, 8 N.C

## IC DGTL ISO I2C 3.75KV 2CH 8SOIC
designator U?  (value not drawn)
I²C Digital Isolator 3750Vrms 2 Channel 35kV/µs CMTI 8-SOIC (0.154", 3.90mm Width); Manufacturer 1: Silicon Labs; Manufacturer Part Number 1: SI8600AC-B-ISR; Number of Channels: 2; Data Rate: 10Mbps; Propagation Delay: 26ns; Channel Type: Bidirectional; Isolated Power: No; Pulse Width Distortion (PWD): 32ns; Supplier 1: Digi-Key; Supplier Part Number 1: SI8600AC-B-ISRCT-ND; Stock 1: 4033; Pricing 1: 1=3.33, 25=3.2084, 100=3.0849 (USD); Case/Package: SOIC; Number of Pins: 8; Weight: 0.006596oz; Min Operating Temperature: -40°C; Max Operating Temperature: 125°C; Package Quantity: 2500; Packaging: Tape and Reel; Polarity: Bidirectional; ComponentLink1URL: https://datasheet.ciiva.com/14921/supportdocuments2ftechnicaldocs2fsi860x-14921653.pdf; ComponentLink1Description: https://datasheet.ciiva.com/14921/supportdocuments2ftechnicaldocs2fsi860x-14921653.pdf
footprint IC DGTL ISO 3.75KV I2C 8SOIC NARROW BODY (SOIC, 8-Leads, Body 4.90x3.90mm, Pitch 1.27mm, IPC Medium Density)
pins: 1 AVDD, 2 ASDA (oc), 3 ASCL (oc), 4 AGND, 5 BGND, 6 BSCL, 7 BSDA, 8 BVDD

## IC DIFFERENTIAL I2C BUFFER PCA9615
designator U?  Base Part Number: PCA9615  (hidden comment: IC DIFFERENTIAL I2C BUFFER PCA9615)
Buffer, ReDriver 2 Channel 400kHz 10-TSSOP; Manufacturer: NXP USA Inc.; Manufacturer Part Number: PCA9615DPJ; Input: 2-Wire Bus; Number of Channels: 2; Voltage - Supply: 2.3 V ~ 5.5 V; Current - Supply: 16µA; Supplier 1: Digi-Key; RoHS: RoHS Compliant; Category: Integrated Circuits (ICs); Stock 1: 7673; Pricing 1: 1=4.38, 10=3.93, 100=3.2205, 500=2.74156, 1000=2.31216 (CAD); Packaging: Cut Tape (CT); Part Status: Active; Type: Buffer, ReDriver; Applications: I²C; Output: 2-Wire Bus; Data Rate (Max): 400kHz; Delay Time: -; Signal Conditioning: -; Operating Temperature: -40°C ~ 85°C; Package / Case: 10-TFSOP, 10-MSOP (0.118", 3.00mm Width); Supplier Device Package: 10-TSSOP; ComponentLink1URL: http://www.nxp.com/documents/data_sheet/PCA9615.pdf; ComponentLink1Description: http://www.nxp.com/documents/data_sheet/PCA9615.pdf; Supplier Part Number 1: 568-11484-1-ND
footprint TSSOP50P490X110-10N (TSSOP, 10-Leads, Body 3.00x3.00mm, Pitch 0.50mm, IPC Medium Density)
pins: 1 VDDA, 2 SDA, 3 EN, 4 SCL, 5 GND, 6 DSCLM, 7 DSCLP, 8 DSDAP, 9 DSDAM, 10 VDDB

## IC DIGITAL ISO SI8715BC-A-IS
designator U?
General Purpose Digital Isolator 3750Vrms 1 Channel 15Mbps 35kV/µs CMTI 8-SOIC (0.154", 3.90mm Width); Manufacturer: Silicon Labs; Manufacturer Part Number: SI8715BC-A-IS; Isolated Power: No; Inputs - Side 1/Side 2: 1/0; Channel Type: Unidirectional; Propagation Delay tpLH / tpHL (Max): 50ns, 50ns; Pulse Width Distortion (Max): 25ns; Rise / Fall Time (Typ): 2.5ns, 2.5ns; Voltage - Supply: 2.5 V ~ 5.5 V; RoHS: RoHS Compliant; Category: Isolators; Packaging: Tube; Part Status: Active; Technology: Capacitive Coupling; Type: General Purpose; Voltage - Isolation: 3750Vrms; Common Mode Transient Immunity (Min): 35kV/µs; Data Rate: 15Mbps; Operating Temperature: -40°C ~ 125°C; Package / Case: 8-SOIC (0.154", 3.90mm Width); Supplier Device Package: 8-SOIC; ComponentLink1URL: http://www.silabs.com/documents/public/data-sheets/Si871x-2x.pdf; ComponentLink1Description: http://www.silabs.com/documents/public/data-sheets/Si871x-2x.pdf; Supplier 1: Digi-Key; Stock 1: 497; Pricing 1: 1=1.45, 25=1.4016, 100=1.3478, 1000=1.33134 (CAD); Supplier Part Number 1: 336-3027-ND
footprint SOIC8
pins: 2 ANODE, 3 CATHODE, 5 GND, 6 VO, 8 VDD

## IC DVR HIGH-SIDE 1CH POWERSSO-16
designator U?, comment VNQ7040AJTR
IC, High Side Drive, 4V - 28V, 24A, 40 mOhm; Manufacturer 1: STMicroelectronics; Manufacturer Part Number 1: VN7040AJTR; Description 1: ABD VIPOWER; Number of Outputs: 1; Interface: On/Off; Fault Protection: Over Voltage,Over Temperature; Supplier 1: Digi-Key; Supplier Part Number 1: 497-15853-1-ND; Stock 1: 1308; Pricing 1: 1=1.82, 10=1.638, 100=1.3165, 500=1.0816, 1000=0.8962 (USD); Number of Pins: 16; Min Operating Temperature: -40°C; Max Operating Temperature: 150°C; Packaging: Tape and Reel; Max Output Current: 24A; Lead Free: Lead Free; ComponentLink1URL: http://www.mouser.com/ds/2/389/vn7040aj-957413.pdf; ComponentLink1Description: http://www.mouser.com/ds/2/389/vn7040aj-957413.pdf; ComponentLink2URL: http://www.st.com/content/ccc/resource/technical/document/datasheet/5f/e6/42/6c/dc/d9/4c/65/DM00157100.pdf/files/DM00157100.pdf/jcr:content/translations/en.DM00157100.pdf; ComponentLink2Description: http://www.st.com/content/ccc/resource/technical/document/datasheet/5f/e6/42/6c/dc/d9/4c/65/DM00157100.pdf/files/DM00157100.pdf/jcr:content/translations/en.DM00157100.pdf
footprint IC DVR HIGH-SIDE 1CH POWERSSO-16 (SSOP, 16-Leads, Body 4.90x3.90mm, Pitch 0.50mm, Thermal Pad 3.50x2.80mm, IPC Medium Density)
pins: 1 INPUT, 2 ~{FAULT_RST}, 3 SEn, 4 GND, 5 SEL0, 6 SEL1, 7 MultiSense, 8 N.C., 9 N.C., 10 N.C., 11 N.C., 12 N.C., 13 OUTPUT, 14 OUTPUT, 15 OUTPUT, 16 OUTPUT, 17 TAB (VCC)

## IC HSD Dual-Channel 40V 1KOhm
designator U?, comment 296-45179-1-ND  Supplier Part Number 1: TPS2H000BQPWPRQ1-ND
IC HSD Dual-Channel 40V 1KOhm; ComponentLink1Description: Datasheet; ComponentLink1URL: http://www.ti.com/lit/ds/symlink/tps2h000-q1.pdf; Supplier Part Number: 296-45179-1-ND; Supplier 1: Digi-Key; Manufacturer Part Number: TPS2H000BQPWPRQ1-ND
footprint IC HSD Dual-Channel TSOP65P640X120_HS-17N (TSOP, 16-Leads, Body 5.00x4.40mm, Pitch 0.65mm, Thermal Pad 3.55x2.46mm, IPC Medium Density)
pins: 1 IN1, 2 IN2, 3 DIAG_EN, 4 ~{FAULT}, 5 SEL, 6 CS, 7 CL, 8 GND, 9 THER, 10 NC, 11 OUT2, 12 OUT2, 13 VS, 14 VS, 15 OUT1, 16 OUT1, 17 Thermal Pad

## IC I/O EXPANDER I2C 8B 18SOIC
designator U?, comment MCP23008
MCP23008 I/O Expander 8B+1Int 18P SOIC; Manufacturer: Microchip Technology; Manufacturer Part Number: MCP23008T-E/SO; Number of I/O: 8; Interface: I²C; Interrupt Output: Yes; Output Type: Push-Pull; Current - Output Source/Sink: 25mA; Voltage - Supply: 1.8 V ~ 5.5 V; Supplier 1: Digi-Key; Supplier Part Number 1: MCP23008T-E/SOCT-ND; RoHS: RoHS Compliant; Category: Integrated Circuits (ICs); Stock 1: 5607; Pricing 1: 1=1.62, 25=1.3548, 100=1.2431 (CAD); Packaging: Cut Tape (CT); Part Status: Active; Features: POR; Operating Temperature: -40°C ~ 125°C; Mounting Type: Surface Mount; Package / Case: 18-SOIC (0.295", 7.50mm Width); Supplier Device Package: 18-SOIC; ComponentLink1URL: http://www.microchip.com/mymicrochip/filehandler.aspx?ddocname=en021920; ComponentLink1Description: http://www.microchip.com/mymicrochip/filehandler.aspx?ddocname=en021920
footprint IC 18SOIC
pins: 1 SCL (io), 2 SDA (io), 3 A2 (in), 4 A1 (in), 5 A0 (in), 6 nRESET (in), 7 NC, 8 INT (out), 9 Vss (power), 10 GP0 (io), 11 GP1 (io), 12 GP2 (io), 13 GP3 (io), 14 GP4 (io), 15 GP5 (io), 16 GP6 (io), 17 GP7 (io), 18 VDD (power)

## IC INVERTER SCHMITT 1CH 5SSOP
designator U?, comment Inverter  Supplier Part Number 1: BU4S584G2DKR-ND
Inverter IC 1 Channel Schmitt Trigger 5-SSOP; Manufacturer: Rohm; Manufacturer Part Number: BU4S584G2-TR; Number of Inputs: 1; Min Supply Voltage: 3V; Max Supply Voltage: 16V; Logic Function: Schmitt Trigger,Buffer,Inverter; Propagation Delay: 50ns; Quiescent Current: 1uA; High Level Output Current: 3.4mA; Supplier 1: Digi-Key; Stock 1: 28906; Pricing 1: 1=0.68, 10=0.571, 25=0.4996, 100=0.4283, 250=0.37116, 500=0.31406, 1000=0.24269 (USD); Mount: Surface Mount; Case/Package: SSOP; Number of Pins: 5; Contact Plating: Copper,Tin; Min Operating Temperature: -40°C; Max Operating Temperature: 85°C; Packaging: Tape and Reel; Number of Elements: 1; Package Quantity: 3000; Number of Circuits: 1; Low Level Output Current: 3.4mA; Turn-On Delay Time: 50ns; Number of Gates: 1; Radiation Hardening: No; REACH SVHC: Unknown; Lead Free: Lead Free; ComponentLink1URL: https://datasheet.ciiva.com/16203/bu4s584g2-e-16203782.pdf; ComponentLink1Description: https://datasheet.ciiva.com/16203/bu4s584g2-e-16203782.pdf; ComponentLink2URL: https://datasheet.ciiva.com/8247/bu4s01g2-e-8247480.pdf; ComponentLink2Description: https://datasheet.ciiva.com/8247/bu4s01g2-e-8247480.pdf; ComponentLink3URL: https://datasheet.ciiva.com/1863/bu4s01g2-e-1863485.pdf; ComponentLink3Description: https://datasheet.ciiva.com/1863/bu4s01g2-e-1863485.pdf; ComponentLink4URL: https://datasheet.ciiva.com/1863/bu4s01g2-e-1863486.pdf; ComponentLink4Description: https://datasheet.ciiva.com/1863/bu4s01g2-e-1863486.pdf; ComponentLink5URL: https://datasheet.ciiva.com/15089/getdatasheetpartid-451247-15089726.pdf; ComponentLink5Description: https://datasheet.ciiva.com/15089/getdatasheetpartid-451247-15089726.pdf; ComponentLink6URL: https://datasheet.ciiva.com/1863/bu4s01g2-e-1863487.pdf; ComponentLink6Description: https://datasheet.ciiva.com/1863/bu4s01g2-e-1863487.pdf; ComponentLink7URL: https://datasheet.ciiva.com/26865/bu4s584g2-tr-26865344.pdf; ComponentLink7Description: https://datasheet.ciiva.com/26865/bu4s584g2-tr-26865344.pdf; ComponentLink8URL: https://datasheet.ciiva.com/26326/140506-da-01-en-ic-bu4s584g2-tr-ssop5-26326013.pdf; ComponentLink8Description: https://datasheet.ciiva.com/26326/140506-da-01-en-ic-bu4s584g2-tr-ssop5-26326013.pdf
footprint SSOP5 - Inverter (SSOP5, 5-Leads, Body 2.90x2.80mm, Pitch 0.95mm, IPC Medium Density)
pins: 2 B, 3 VSS, 4 Y, 5 VDD

## IC INVERTER SCHMITT 1CH SC70-5
designator U?  Supplier Part Number 1: 296-47215-1-ND
Inverter IC 1 Channel Schmitt Trigger SC-70-5; Manufacturer: STMicroelectronics; Manufacturer Part Number: M74HC14YTTR; Number of Inputs: 6; Propagation Delay: 21ns; Max Supply Voltage: 6V; Min Supply Voltage: 2V; Quiescent Current: 1uA; High Level Output Current: 5.2mA; Turn-On Delay Time: 25ns; Number of Bits: 1; RoHS: Yes; Mount: Surface Mount; Case/Package: TSSOP; Number of Pins: 14; Weight: 0.004949oz; Min Operating Temperature: -40°C; Max Operating Temperature: 125°C; Packaging: Tape and Reel; Package Quantity: 2500; Logic Function: Inverter; Number of Circuits: 6; Low Level Output Current: 5.2mA; Lead Free: Lead Free; Supplier 1: Digi-Key; Stock 1: 11031; Pricing 1: 1 = 0.36000, 10 = 0.29000, 100 = 0.19780, 500 = 0.14832, 1000 = 0.11124 (USD)
footprint IC INVERTER SCHMITT 1CH SC70-5 (Inverter IC 1 Channel Schmitt Trigger SC-70-5)
pins: 1 NC, 2 A, 3 GND, 4 Y, 5 VCC

## IC INVERTER SCHMITT 6CH 14TSSOP
designator *  Supplier Part Number 1: 497-14387-1-ND
Inverter IC 6 Channel Schmitt Trigger 14-TSSOP; Manufacturer: STMicroelectronics; Manufacturer Part Number: M74HC14YTTR; Number of Inputs: 6; Propagation Delay: 21ns; Max Supply Voltage: 6V; Min Supply Voltage: 2V; Quiescent Current: 1uA; High Level Output Current: 5.2mA; Turn-On Delay Time: 25ns; ComponentLink1Description: Digikey; ComponentLink1URL: https://www.digikey.ca/product-detail/en/stmicroelectronics/M74HC14YTTR/497-14387-1-ND/4725844; Supplier 1: Digi-Key; RoHS: Yes; Stock 1: 20035; Pricing 1: 1 = 0.44000, 10 = 0.37500, 100 = 0.27970, 500 = 0.21980, 1000 = 0.16985 (USD); Mount: Surface Mount; Case/Package: TSSOP; Number of Pins: 14; Weight: 0.004949oz; Min Operating Temperature: -40°C; Max Operating Temperature: 125°C; Packaging: Tape and Reel; Package Quantity: 2500; Logic Function: Inverter; Number of Circuits: 6; Low Level Output Current: 5.2mA; Lead Free: Lead Free; ComponentLink2URL: http://www.st.com/content/ccc/resource/technical/document/datasheet/19/a3/52/42/dd/ab/4b/46/CD00000263.pdf/files/CD00000263.pdf/jcr:content/translations/en.CD00000263.pdf; ComponentLink2Description: http://www.st.com/content/ccc/resource/technical/document/datasheet/19/a3/52/42/dd/ab/4b/46/CD00000263.pdf/files/CD00000263.pdf/jcr:content/translations/en.CD00000263.pdf; ComponentLink3URL: http://www.st.com/st-web-ui/static/active/en/resource/technical/document/datasheet/CD00000263.pdf; ComponentLink3Description: http://www.st.com/st-web-ui/static/active/en/resource/technical/document/datasheet/CD00000263.pdf
footprint IC INVERTER SCHMITT 6CH 14TSSOP
pins: 1 A1, 2 ~{Y1}, 3 A2, 4 ~{Y2}, 5 A3, 6 ~{Y3}, 7 GND, 8 ~{Y4}, 9 A4, 10 ~{Y5}, 11 A5, 12 ~{Y6}, 13 A6, 14 VCC

## IC ISOSPI COMM INTERFACE LTC6820IMS#3ZZPBF
designator U?  Supplier Part Number 1: LTC6820IMS#3ZZPBF-ND  (hidden comment: *)
Isolated Communications Interface Interface 16-MSOP; Manufacturer: Linear Technology; Manufacturer Part Number: LTC6820IMS#3ZZPBF; Interface: SPI; Voltage - Supply: 2.7 V ~ 5.5 V; RoHS: RoHS3 Compliant; Category: Integrated Circuits (ICs); Packaging: Tube; Part Status: Active; Applications: Isolated Communications Interface; Package / Case: 16-TFSOP (0.118", 3.00mm Width); Supplier Device Package: 16-MSOP; Mounting Type: Surface Mount; ComponentLink1URL: http://www.linear.com/docs/42317; ComponentLink1Description: http://www.linear.com/docs/42317; Supplier 1: Digi-Key
footprint IC isoSPI Interface LTC6820 MSOP
pins: 1 EN, 2 MOSI, 3 MISO, 4 SCK, 5 CSn, 6 VDDS, 7 POL, 8 PHA, 9 VDD, 10 IM, 11 IP, 12 MSTR, 13 SLOW, 14 GND, 15 ICMP, 16 IBIAS

## IC ISOSPI COMM INTERFACE LTC6820IUD
designator U?  Supplier Part Number 1: LTC6820IUD#PBF-ND  (hidden comment: *)
IC COMM INTERFACE ISOSPI 16-QFN; Manufacturer: Linear Technology; Manufacturer Part Number: LTC6820IUD#PBF; Interface: SPI; Voltage - Supply: 2.7 V ~ 5.5 V; Supplier 1: Digi-Key; RoHS: RoHS Compliant; Category: Integrated Circuits (ICs); Stock 1: 827; Pricing 1: 1=7.35, 25=4.8816, 100=4.0066 (CAD); Packaging: Tube; Part Status: Active; Applications: Isolated Communications Interface; Package / Case: 16-WFQFN Exposed Pad; Supplier Device Package: 16-QFN (3x3); Mounting Type: Surface Mount; ComponentLink1URL: http://www.linear.com/docs/42317; ComponentLink1Description: http://www.linear.com/docs/42317
footprint IC COMM INTERFACE ISOSPI 16-QFN (16-WFQFN Exposed Pad)
pins: 1 MOSI, 2 MISO, 3 SCK, 4 CSn, 5 VDDS, 6 POL, 7 PHA, 8 VDD, 9 IM, 10 IP, 11 MSTR, 12 SLOW, 13 GND, 14 ICMP, 15 IBIAS, 16 EN, 17 EP

## IC LOAD SWITCH 8CH 0.5A 18SOP
designator U?  Supplier Part Number 1: TBD62783AFGELCT-ND  (hidden comment: *)
IC LOAD SWITCH 8CHANNEL 0.5A 18SOP; Manufacturer: Toshiba; Manufacturer Part Number: TBD62783AFG,EL; Number of Outputs: 8; Interface: On/Off; Max Output Current: 500mA; Output Configuration: High Side; Supplier 1: Digi-Key; RoHS: Yes; Stock 1: 8776; Pricing 1: 1 = 1.15000, 10 = 1.02200, 25 = 0.92280, 100 = 0.80750, 250 = 0.70864, 500 = 0.62624 (USD); Case/Package: SOIC; Number of Pins: 18; Min Operating Temperature: -40°C; Max Operating Temperature: 85°C; Packaging: Cut Tape
footprint IC LOAD SWITCH 8CH 0.5A 18-SSOP (TSOP, 18-Leads, Body 6.70x4.40mm, Pitch 0.65mm, IPC Medium Density)
pins: 1 I1, 2 I2, 3 I3, 4 I4, 5 I5, 6 I6, 7 I7, 8 I8, 9 VCC, 10 GND, 11 O8, 12 O7, 13 O6, 14 O5, 15 O4, 16 O3, 17 O2, 18 O1

## IC LOAD SWITCH ACT-HI 10.5A 8DFN
designator U?  Supplier Part Number 2: NCP45521IMNTWG-HOSDKR-ND
NCP45521IMNTWG-H; Manufacturer: ON Semiconductor; Switch Type: General Purpose; Number of Outputs: 1; Ratio - Input:Output: 1:1; Output Configuration: High Side; Output Type: N-Channel; Interface: On/Off; Voltage - Load: 0.5 V ~ 13.5 V; Voltage - Supply (Vcc/Vdd): 3 V ~ 5.5 V; Current - Output (Max): 10.5A; Rds On (Typ): 12.8 mOhm; Input Type: Non-Inverting; Fault Protection: Over Temperature, UVLO; Manufacturer Part Number: NCP45521IMNTWG-H; RoHS: RoHS Compliant; Category: Integrated Circuits (ICs); Packaging: Digi-Reel®; Part Status: Active; Features: Slew Rate Controlled; Operating Temperature: -40°C ~ 85°C (TA); Package / Case: 8-VFDFN Exposed Pad; Supplier Device Package: 8-DFN (2x2); ComponentLink1URL: http://www.onsemi.com/pub/Collateral/NCP45520-D.PDF; ComponentLink1Description: http://www.onsemi.com/pub/Collateral/NCP45520-D.PDF; Supplier 1: Digi-Key; Stock 1: 2377; Pricing 1: 1=1.57, 10=1.405, 100=1.0957, 500=0.90518, 1000=0.71462 (CAD); Supplier 2: Digi-Key; Stock 2: 2211; Pricing 2: 1=1.53, 10=1.372, 100=1.0702, 500=0.88408, 1000=0.69797 (CAD)
footprint IC LOAD SWITCH ACT-HI 10.5A 8DFN
pins: 1 VIN, 2 EN, 3 VCC, 4 GND, 5 BLEED, 6 SR, 7 VOUT, 8 VOUT, 9 VIN

## IC LOAD SWITCH BTS7200-2EPA PG-TSDSO-14_1
designator U?  Manufacturer Part Number: BTS72002EPAXUMA1  (hidden comment: *)
Power Switch/Driver 1:1 N-Channel 1.2A PG-TSDSO-14-22; Manufacturer: Infineon; Supplier 1: Digi-Key; Supplier Part Number 1: BTS72002EPAXUMA1CT-ND; Stock 1: 1973; Pricing 1: 1=1.31000, 10=1.17500, 100=0.91640, 500=0.75700, 1000=0.59763 (USD); RoHS: No; ComponentLink1Description: https://www.infineon.com/dgdl/Infineon-BTS7200-2EPA-DS-v01_00-EN.pdf?fileId=5546d462636cc8fb016421e548a61215; ComponentLink1URL: https://www.infineon.com/dgdl/Infineon-BTS7200-2EPA-DS-v01_00-EN.pdf?fileId=5546d462636cc8fb016421e548a61215
footprint IC LOAD SWITCH PG-TSDSO-14-22 (SOP,0.65mm pitch;14 pin,3.90mm W X 4.90mm L X 1.15mm H body (w/thermal tab))
pins: 1 GND, 2 IN0, 3 DEN, 4 IS, 5 DSEL, 6 IN1, 8 OUT1, 9 OUT1, 10 OUT1, 12 OUT0, 13 OUT0, 14 OUT0, 15 VS

## IC LOAD SWITCH BTS70041EPPXUMA1CT-ND_1
designator U?  Manufacturer Part Number: BTS70041EPPXUMA1  (hidden comment: *)
Power Switch/Driver 1:1 N-Channel 15A PG-TSDSO-14-22; Manufacturer: Infineon; RoHS: YES; ComponentLink1Description: https://www.infineon.com/dgdl/Infineon-BTS7004-1EPP-DS-v01_00-EN.pdf?fileId=5546d4626102d35a016147550a725555; ComponentLink1URL: https://www.infineon.com/dgdl/Infineon-BTS7004-1EPP-DS-v01_00-EN.pdf?fileId=5546d4626102d35a016147550a725555; Supplier 1: Digi-Key; Supplier Part Number 1: BTS70041EPPXUMA1CT-ND
footprint IC LOAD SWITCH PG-TSDSO-14-22 (SOP,0.65mm pitch;14 pin,3.90mm W X 4.90mm L X 1.15mm H body (w/thermal tab))
pins: 1 GND, 2 IN, 3 DEN, 4 IS, 8 OUT, 9 OUT, 10 OUT, 12 OUT, 13 OUT, 14 OUT, 15 VS

## IC LOAD SWITCH BTS70081EPPXUMA1
designator U?  Manufacturer Part Number: BTS70081EPPXUMA1CT-ND  (hidden comment: *)
Power Switch/Driver 1:1 N-Channel 11A PG-TSDSO-14-22; Manufacturer: Infineon; RoHS: YES; ComponentLink1Description: https://media.digikey.com/pdf/Data%20Sheets/Infineon%20PDFs/BTS7008-1EPP_v1.03_4-29-19.pdf; ComponentLink1URL: https://media.digikey.com/pdf/Data%20Sheets/Infineon%20PDFs/BTS7008-1EPP_v1.03_4-29-19.pdf; Supplier 1: Digi-Key; Supplier Part Number 1: BTS70081EPPXUMA1CT-ND
footprint IC LOAD SWITCH PG-TSDSO-14-22 (SOP,0.65mm pitch;14 pin,3.90mm W X 4.90mm L X 1.15mm H body (w/thermal tab))
pins: 1 GND, 2 IN, 3 DEN, 4 IS, 8 OUT, 9 OUT, 10 OUT, 12 OUT, 13 OUT, 14 OUT, 15 VS

## IC LOAD SWITCH BTS70401EPA PG-TSDSO-14-22
designator U?
Power Switch/Driver 1:1 N-Channel 4.5A PG-TSDSO-14-22; Manufacturer: Infineon; Manufacturer Part Number: BTS70401EPAXUMA1; ComponentLink1Description: https://www.infineon.com/dgdl/Infineon-BTS7040-1EPA-DS-v01_00-EN.pdf?fileId=5546d462636cc8fb0163fe8f965308bc; ComponentLink1URL: https://www.infineon.com/dgdl/Infineon-BTS7040-1EPA-DS-v01_00-EN.pdf?fileId=5546d462636cc8fb0163fe8f965308bc; Supplier 1: Digi-Key; Supplier Part Number 1: BTS70401EPAXUMA1CT-ND
footprint IC LOAD SWITCH PG-TSDSO-14-22 (SOP,0.65mm pitch;14 pin,3.90mm W X 4.90mm L X 1.15mm H body (w/thermal tab))
pins: 1 GND, 2 IN, 3 DEN, 4 IS, 12 OUT0, 13 OUT0, 14 OUT0, 15 VS

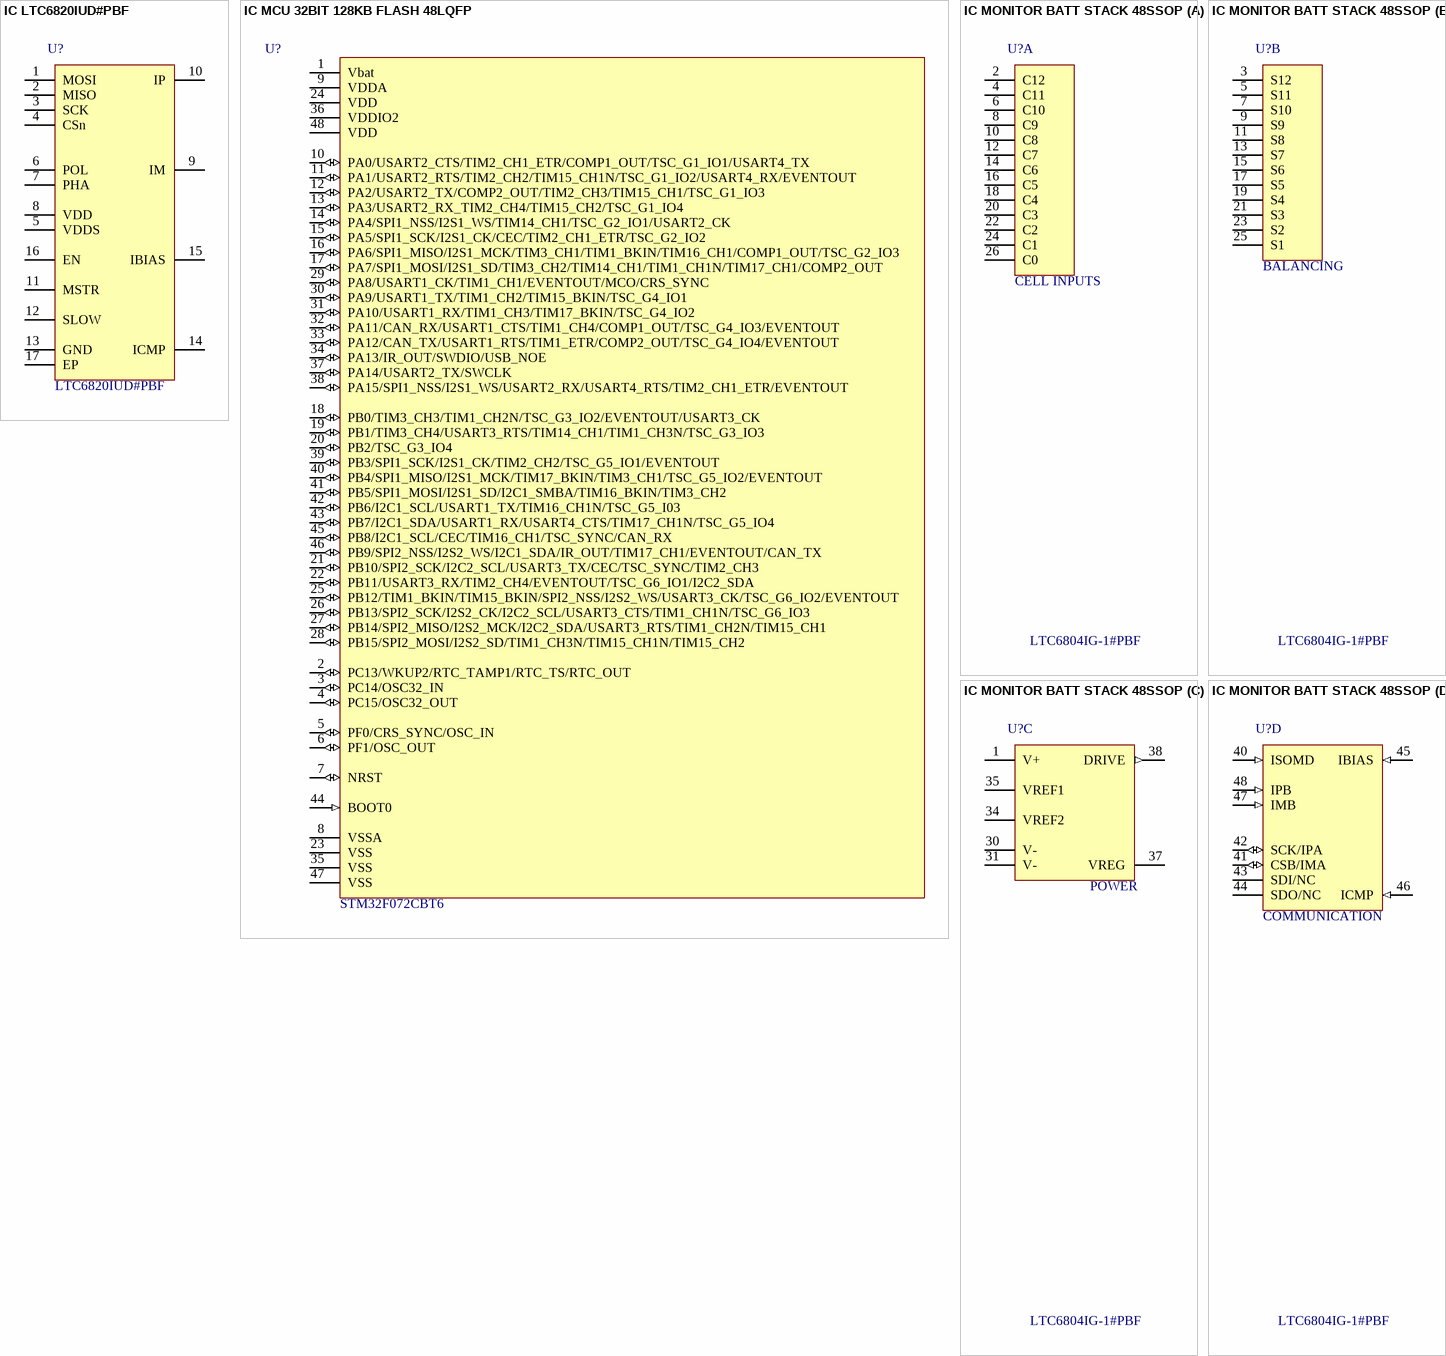
[diagram p5: symbols IC LTC6820IUD#PBF to IC MONITOR BATT STACK 48SSOP]

## IC LTC6820IUD#PBF
designator U?  Manufacturer_PN: LTC6820IUD#PBF  (hidden comment: *)
IC COMM INTERFACE ISOSPI 16-QFN; Manufacturer: Linear Technology; Supplier: Digikey; Supplier_PN: LTC6820IUD#PBF-ND; Supplier 1: Digi-Key; Supplier Part Number 1: LTC6820IUD#PBF-ND
pins: 1 MOSI, 2 MISO, 3 SCK, 4 CSn, 5 VDDS, 6 POL, 7 PHA, 8 VDD, 9 IM, 10 IP, 11 MSTR, 12 SLOW, 13 GND, 14 ICMP, 15 IBIAS, 16 EN, 17 EP

## IC MCU 32BIT 128KB FLASH 48LQFP
designator U?  Manufacturer Part Number 1: STM32F072CBT6
ARM® Cortex®-M0 STM32 F0 Microcontroller IC 32-Bit 48MHz 128KB (128K x 8) FLASH 48-LQFP (7x7); Manufacturer 1: STMicroelectronics; Connectivity: CAN, HDMI-CEC, I²C, IrDA, LIN, SPI, UART/USART, USB; Peripherals: DMA, I²S, POR, PWM, WDT; Number of I/O: 37; RAM Size: 16K x 8; Voltage - Supply (Vcc/Vdd): 1.65 V ~ 3.6 V; Data Converters: A/D 10x12b, D/A 2x12b; Oscillator Type: Internal; Supplier 1: Digi-Key; Supplier Part Number 1: 497-14645-ND; Packaging: Tray; Part Status: Active; Core Processor: ARM® Cortex®-M0; Core Size: 32-Bit; Speed: 48MHz; Program Memory Size: 128KB (128K x 8); Program Memory Type: FLASH; EEPROM Size: -; Operating Temperature: -40°C ~ 85°C (TA); Package / Case: 48-LQFP; Supplier Device Package: 48-LQFP (7x7); ComponentLink1URL: http://www.st.com/content/ccc/resource/technical/document/datasheet/cd/46/43/83/22/d3/40/c8/DM00090510.pdf/files/DM00090510.pdf/jcr:content/translations/en.DM00090510.pdf; ComponentLink1Description: http://www.st.com/content/ccc/resource/technical/document/datasheet/cd/46/43/83/22/d3/40/c8/DM00090510.pdf/files/DM00090510.pdf/jcr:content/translations/en.DM00090510.pdf
footprint TSQFP50P890X890X160-48M (TSQFP, 48-Leads, Body 7.00x7.00mm, Pitch 0.50mm, IPC Low Density)
pins: 1 Vbat (power), 2 PC13/WKUP2/RTC_TAMP1/RTC_TS/RTC_OUT (io), 3 PC14/OSC32_IN (io), 4 PC15/OSC32_OUT (io), 5 PF0/CRS_SYNC/OSC_IN (io), 6 PF1/OSC_OUT (io), 7 NRST (io), 8 VSSA (power), 9 VDDA (power), 10 PA0/USART2_CTS/TIM2_CH1_ETR/COMP1_OUT/TSC_G1_IO1/USART4_TX (io), 11 PA1/USART2_RTS/TIM2_CH2/TIM15_CH1N/TSC_G1_IO2/USART4_RX/EVENTOUT (io), 12 PA2/USART2_TX/COMP2_OUT/TIM2_CH3/TIM15_CH1/TSC_G1_IO3 (io), 13 PA3/USART2_RX_TIM2_CH4/TIM15_CH2/TSC_G1_IO4 (io), 14 PA4/SPI1_NSS/I2S1_WS/TIM14_CH1/TSC_G2_IO1/USART2_CK (io), 15 PA5/SPI1_SCK/I2S1_CK/CEC/TIM2_CH1_ETR/TSC_G2_IO2 (io), 16 PA6/SPI1_MISO/I2S1_MCK/TIM3_CH1/TIM1_BKIN/TIM16_CH1/COMP1_OUT/TSC_G2_IO3 (io), 17 PA7/SPI1_MOSI/I2S1_SD/TIM3_CH2/TIM14_CH1/TIM1_CH1N/TIM17_CH1/COMP2_OUT (io), 18 PB0/TIM3_CH3/TIM1_CH2N/TSC_G3_IO2/EVENTOUT/USART3_CK (io), 19 PB1/TIM3_CH4/USART3_RTS/TIM14_CH1/TIM1_CH3N/TSC_G3_IO3 (io), 20 PB2/TSC_G3_IO4 (io), 21 PB10/SPI2_SCK/I2C2_SCL/USART3_TX/CEC/TSC_SYNC/TIM2_CH3 (io), 22 PB11/USART3_RX/TIM2_CH4/EVENTOUT/TSC_G6_IO1/I2C2_SDA (io), 23 VSS (power), 24 VDD (power), 25 PB12/TIM1_BKIN/TIM15_BKIN/SPI2_NSS/I2S2_WS/USART3_CK/TSC_G6_IO2/EVENTOUT (io), 26 PB13/SPI2_SCK/I2S2_CK/I2C2_SCL/USART3_CTS/TIM1_CH1N/TSC_G6_IO3 (io), 27 PB14/SPI2_MISO/I2S2_MCK/I2C2_SDA/USART3_RTS/TIM1_CH2N/TIM15_CH1 (io), 28 PB15/SPI2_MOSI/I2S2_SD/TIM1_CH3N/TIM15_CH1N/TIM15_CH2 (io), 29 PA8/USART1_CK/TIM1_CH1/EVENTOUT/MCO/CRS_SYNC (io), 30 PA9/USART1_TX/TIM1_CH2/TIM15_BKIN/TSC_G4_IO1 (io), 31 PA10/USART1_RX/TIM1_CH3/TIM17_BKIN/TSC_G4_IO2 (io), 32 PA11/CAN_RX/USART1_CTS/TIM1_CH4/COMP1_OUT/TSC_G4_IO3/EVENTOUT (io), 33 PA12/CAN_TX/USART1_RTS/TIM1_ETR/COMP2_OUT/TSC_G4_IO4/EVENTOUT (io), 34 PA13/IR_OUT/SWDIO/USB_NOE (io), 35 VSS (power), 36 VDDIO2 (power), 37 PA14/USART2_TX/SWCLK (io), 38 PA15/SPI1_NSS/I2S1_WS/USART2_RX/USART4_RTS/TIM2_CH1_ETR/EVENTOUT (io), 39 PB3/SPI1_SCK/I2S1_CK/TIM2_CH2/TSC_G5_IO1/EVENTOUT (io), 40 PB4/SPI1_MISO/I2S1_MCK/TIM17_BKIN/TIM3_CH1/TSC_G5_IO2/EVENTOUT (io), 41 PB5/SPI1_MOSI/I2S1_SD/I2C1_SMBA/TIM16_BKIN/TIM3_CH2 (io), 42 PB6/I2C1_SCL/USART1_TX/TIM16_CH1N/TSC_G5_I03 (io), 43 PB7/I2C1_SDA/USART1_RX/USART4_CTS/TIM17_CH1N/TSC_G5_IO4 (io), 44 BOOT0 (in), 45 PB8/I2C1_SCL/CEC/TIM16_CH1/TSC_SYNC/CAN_RX (io), 46 PB9/SPI2_NSS/I2S2_WS/I2C1_SDA/IR_OUT/TIM17_CH1/EVENTOUT/CAN_TX (io), 47 VSS (power), 48 VDD (power)

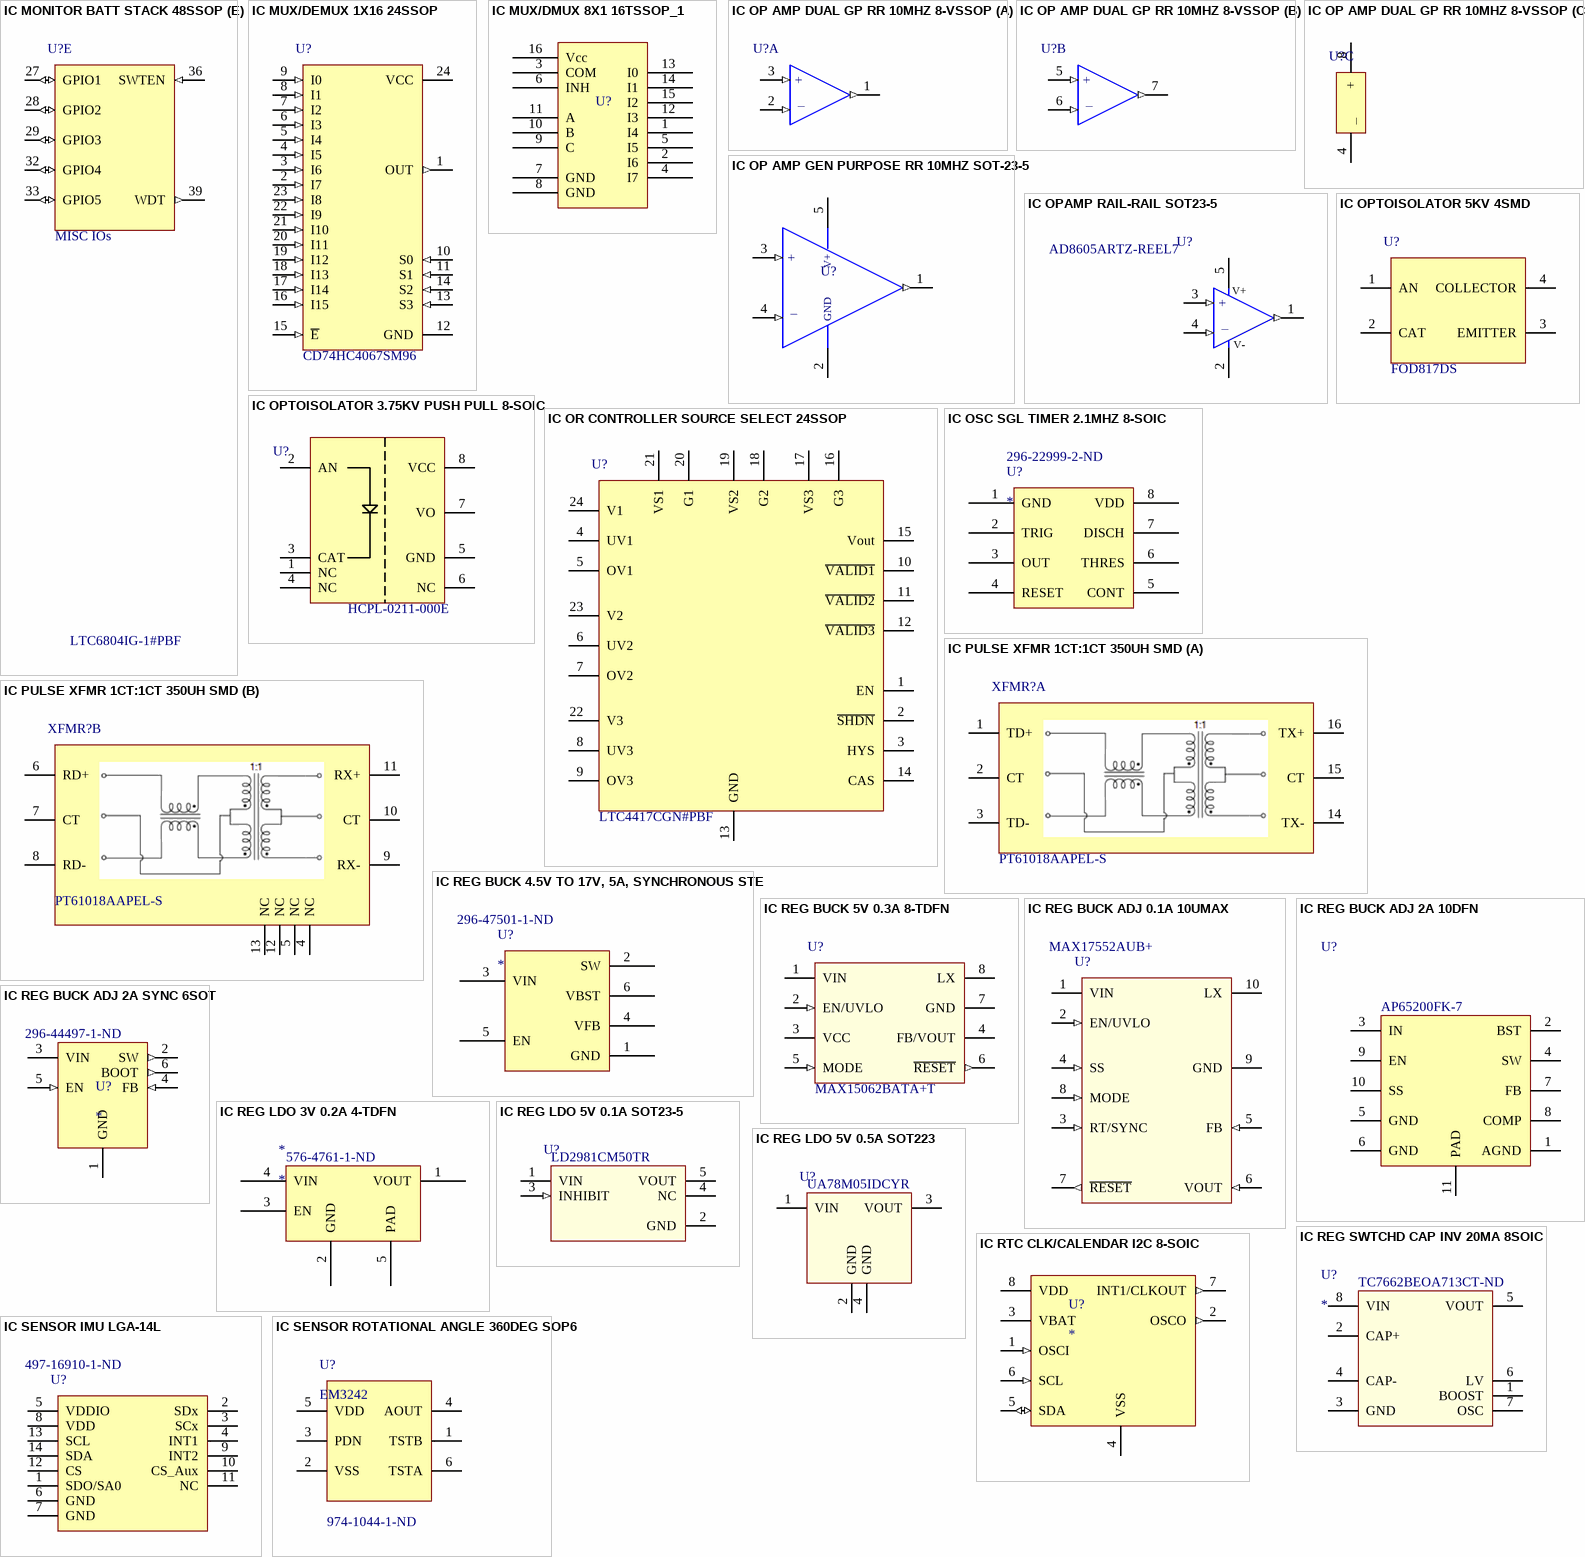
[diagram p6: symbols IC MONITOR BATT STACK 48SSOP to IC SENSOR ROTATIONAL ANGLE 360DEG SOP6]